# EAGLE library part SN74LVC1G3157 (library lightmeter)
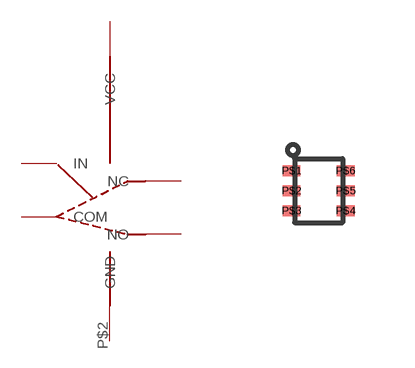
[diagram p12: symbol with the pads of SOT-553-6; footprint SOT-553-6]

Designator prefix -

## SN74LVC1G3157  [SOT-553-6]
P$1  NO
P$2  GND
P$3  NC
P$4  COM
P$5  VCC
P$6  IN

## Footprint SOT-553-6 (pad centres in mm)
smd 0.45 x 0.279: P$1 -0.675,0.5; P$2 -0.675,0; P$3 -0.675,-0.5; P$4 0.675,-0.5; P$5 0.675,0; P$6 0.675,0.5